# Altium integrated library Microchip PIC18.IntLib: 1897 symbols (part 49 of 110)
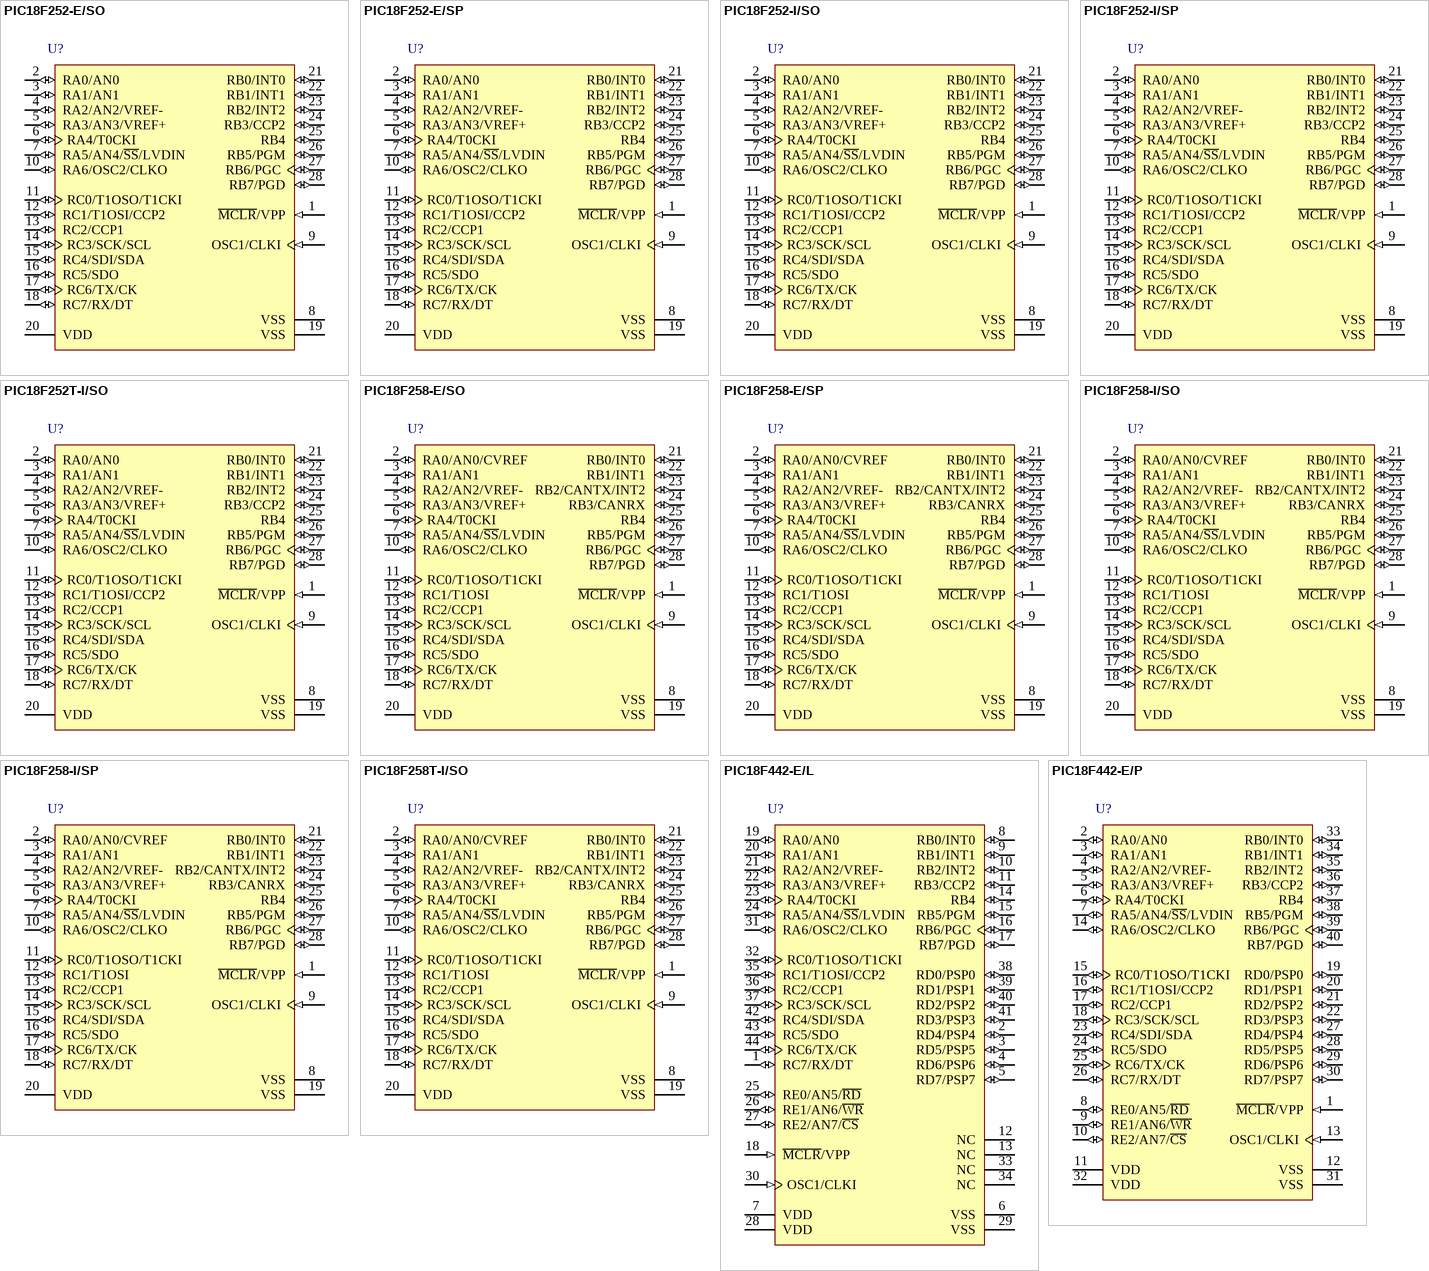
[diagram p247: symbols PIC18F252-E/SO to PIC18F442-E/P]

## PIC18F442-E/P
designator U?
High Performance, Enhanced Flash Microcontroller with 10-Bit A/D, 40 MHz, 34 I/O, -40 to 125 degC, 40-pin PDIP (P40), Tube; Manufacturer: Microchip; PartNumber: PIC18F442-E/P; # of A/D Channels: 8; Digital Communication: 0 -UART, 1 -A/E/USART, 0 -SPI, 0 -I2C, 1 -MSSP(SPI/I2C); EEPROM Data Memory (bytes): 256; I/O Pins: 34; Max. CPU Speed MHz: 40; Operation Voltage Range: 4.2V - 5.5V; Program Memory KBytes: 16; RAM: 768; Timers: 1 - 8-bit, 3 - 16-bit, 0 - 32-bit; DatasheetVersion: Rev. C; PackageVersion: C04-016B, 04/2013; PackageReference: PDIP-P40; PackageDescription: 40-Lead Plastic Dual In-Line Package, Body 51.75 x 13.53 mm, Pitch 2.54 mm; Supplier 1: Digi-Key; Supplier Part Number 1: PIC18F442-E/P-ND; Supplier 2: Mouser; Supplier Part Number 2: 579-PIC18F442-E/P; Memory Type: Flash; Packing: TUBE; Program Memory KWords: 8; RoHS: TRUE; Mounting Technology: Through Hole; ComponentLink1Description: Datasheet; ComponentLink1URL: http://ww1.microchip.com/downloads/en/DeviceDoc/39564c.pdf; ComponentLink2Description: Package Specification; ComponentLink2URL: http://www.microchip.com/stellent/groups/techpub_sg/documents/packagingspec/en012702.pdf; ComponentLink3Description: URL Link1; ComponentLink3URL: Product URL:http://www.microchip.com/datasheet/PIC18F442
footprint MCHP-PDIP-P40 (PDIP, 40-Leads, Body 51.75x13.53mm, Pitch 2.54mm)
pins: 1 ~{MCLR}/VPP (in), 2 RA0/AN0 (io), 3 RA1/AN1 (io), 4 RA2/AN2/VREF- (io), 5 RA3/AN3/VREF+ (io), 6 RA4/T0CKI (io), 7 RA5/AN4/~{SS}/LVDIN (io), 8 RE0/AN5/~{RD} (io), 9 RE1/AN6/~{WR} (io), 10 RE2/AN7/~{CS} (io), 11 VDD (power) "Positive supply for logic and I/O pins.", 12 VSS (power) "Ground reference for logic and I/O pins.", 13 OSC1/CLKI (in), 14 RA6/OSC2/CLKO (io), 15 RC0/T1OSO/T1CKI (io), 16 RC1/T1OSI/CCP2 (io), 17 RC2/CCP1 (io), 18 RC3/SCK/SCL (io), 19 RD0/PSP0 (io), 20 RD1/PSP1 (io), 21 RD2/PSP2 (io), 22 RD3/PSP3 (io), 23 RC4/SDI/SDA (io), 24 RC5/SDO (io), 25 RC6/TX/CK (io), 26 RC7/RX/DT (io), 27 RD4/PSP4 (io), 28 RD5/PSP5 (io), 29 RD6/PSP6 (io), 30 RD7/PSP7 (io), 31 VSS (power) "Ground reference for logic and I/O pins.", 32 VDD (power) "Positive supply for logic and I/O pins.", 33 RB0/INT0 (io), 34 RB1/INT1 (io), 35 RB2/INT2 (io), 36 RB3/CCP2 (io), 37 RB4 (io) "PORTB is a bi-directional I/O port. PORTB can be software programmed for internal weak pull-ups on all inputs. Digital I/O. Interrupt-on-change pin.", 38 RB5/PGM (io), 39 RB6/PGC (io), 40 RB7/PGD (io)

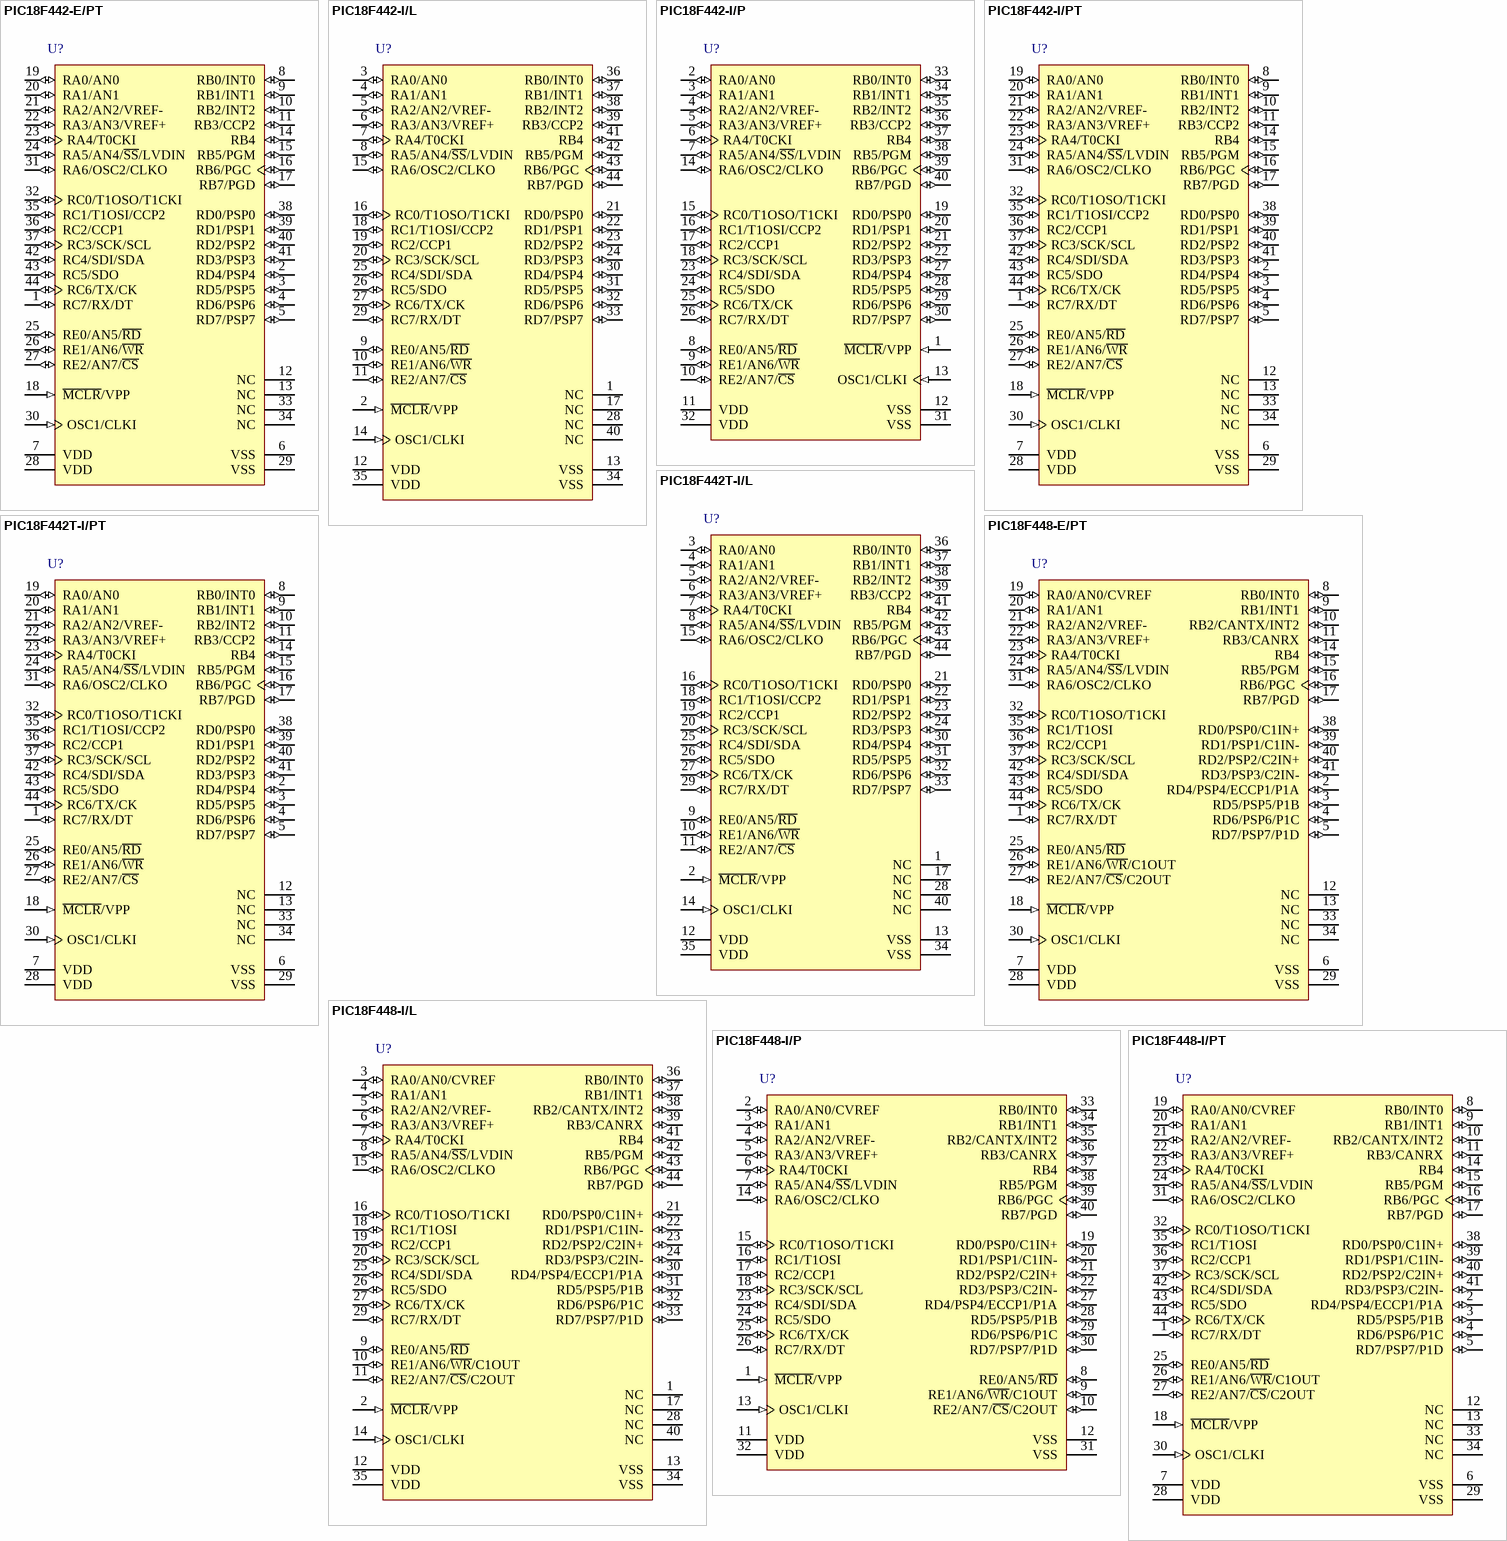
[diagram p89: symbols PIC18F442-E/PT to PIC18F448-I/PT]

## PIC18F442-E/PT
designator U?
High Performance, Enhanced Flash Microcontroller with 10-Bit A/D, 40 MHz, 34 I/O, -40 to 125 degC, 44-pin TQFP (PT44), Tray; Manufacturer: Microchip; PartNumber: PIC18F442-E/PT; # of A/D Channels: 8; Digital Communication: 0 -UART, 1 -A/E/USART, 0 -SPI, 0 -I2C, 1 -MSSP(SPI/I2C); EEPROM Data Memory (bytes): 256; I/O Pins: 34; Max. CPU Speed MHz: 40; Operation Voltage Range: 4.2V - 5.5V; Program Memory KBytes: 16; RAM: 768; Timers: 1 - 8-bit, 3 - 16-bit, 0 - 32-bit; DatasheetVersion: Rev. C; PackageVersion: C04-076B, 12/2012; PackageReference: TQFP-PT44; PackageDescription: 44-Lead Plastic Thin Quad Flatpack, 10 x 10 mm Body, 0.8 mm Pitch; Supplier 1: Digi-Key; Supplier Part Number 1: PIC18F442-E/PT-ND; Supplier 2: Mouser; Supplier Part Number 2: 579-PIC18F442-E/PT; Memory Type: Flash; Packing: TRAY; Program Memory KWords: 8; RoHS: TRUE; Mounting Technology: Surface Mount; ComponentLink1Description: Datasheet; ComponentLink1URL: http://ww1.microchip.com/downloads/en/DeviceDoc/39564c.pdf; ComponentLink2Description: Package Specification; ComponentLink2URL: http://www.microchip.com/stellent/groups/techpub_sg/documents/packagingspec/en012702.pdf; ComponentLink3Description: URL Link1; ComponentLink3URL: Product URL:http://www.microchip.com/datasheet/PIC18F442
footprint MCHP-TQFP-PT44_N (QFN, 44-Leads, Body 10x10mm, Pitch 0.8mm, IPC Medium Density)
footprint MCHP-TQFP-PT44_L (QFN, 44-Leads, Body 10x10mm, Pitch 0.8mm, IPC High Density)
footprint MCHP-TQFP-PT44_M (QFN, 44-Leads, Body 10x10mm, Pitch 0.8mm, IPC Low Density)
pins: 1 RC7/RX/DT (io), 2 RD4/PSP4 (io), 3 RD5/PSP5 (io), 4 RD6/PSP6 (io), 5 RD7/PSP7 (io), 6 VSS (power) "Ground reference for logic and I/O pins.", 7 VDD (power) "Positive supply for logic and I/O pins.", 8 RB0/INT0 (io), 9 RB1/INT1 (io), 10 RB2/INT2 (io), 11 RB3/CCP2 (io), 12 NC "These pins should be left unconnected.", 13 NC "These pins should be left unconnected.", 14 RB4 (io) "PORTB is a bi-directional I/O port. PORTB can be software programmed for internal weak pull-ups on all inputs. Digital I/O. Interrupt-on-change pin.", 15 RB5/PGM (io), 16 RB6/PGC (io), 17 RB7/PGD (io), 18 ~{MCLR}/VPP (in), 19 RA0/AN0 (io), 20 RA1/AN1 (io), 21 RA2/AN2/VREF- (io), 22 RA3/AN3/VREF+ (io), 23 RA4/T0CKI (io), 24 RA5/AN4/~{SS}/LVDIN (io), 25 RE0/AN5/~{RD} (io), 26 RE1/AN6/~{WR} (io), 27 RE2/AN7/~{CS} (io), 28 VDD (power) "Positive supply for logic and I/O pins.", 29 VSS (power) "Ground reference for logic and I/O pins.", 30 OSC1/CLKI (in), 31 RA6/OSC2/CLKO (io), 32 RC0/T1OSO/T1CKI (io), 33 NC "These pins should be left unconnected.", 34 NC "These pins should be left unconnected.", 35 RC1/T1OSI/CCP2 (io), 36 RC2/CCP1 (io), 37 RC3/SCK/SCL (io), 38 RD0/PSP0 (io), 39 RD1/PSP1 (io), 40 RD2/PSP2 (io), 41 RD3/PSP3 (io), 42 RC4/SDI/SDA (io), 43 RC5/SDO (io), 44 RC6/TX/CK (io)

## PIC18F442-I/L
designator U?
High Performance, Enhanced Flash Microcontroller with 10-Bit A/D, 40 MHz, 34 I/O, -40 to 85 degC, 44-pin PLCC (L44), Tube; Manufacturer: Microchip; PartNumber: PIC18F442-I/L; # of A/D Channels: 8; Digital Communication: 0 -UART, 1 -A/E/USART, 0 -SPI, 0 -I2C, 1 -MSSP(SPI/I2C); EEPROM Data Memory (bytes): 256; I/O Pins: 34; Max. CPU Speed MHz: 40; Operation Voltage Range: 4.2V - 5.5V; Program Memory KBytes: 16; RAM: 768; Timers: 1 - 8-bit, 3 - 16-bit, 0 - 32-bit; DatasheetVersion: Rev. C; PackageVersion: C04-048B, 04/2013; PackageReference: PLCC-L44; PackageDescription: 44-Lead Plastic Leaded Chip Carrier, Body 16.5862 x 16.5862 mm, Pitch 1.27 mm; Supplier 1: Digi-Key; Supplier Part Number 1: PIC18F442-I/L-ND; Supplier 2: Farnell; Supplier Part Number 2: 9762175; Supplier 3: Newark; Supplier Part Number 3: 89C2888; Supplier 4: Mouser; Supplier Part Number 4: 579-PIC18F442-I/L; Memory Type: Flash; Packing: TUBE; Program Memory KWords: 8; RoHS: TRUE; Mounting Technology: Surface Mount; ComponentLink1Description: Datasheet; ComponentLink1URL: http://ww1.microchip.com/downloads/en/DeviceDoc/39564c.pdf; ComponentLink2Description: Package Specification; ComponentLink2URL: http://www.microchip.com/stellent/groups/techpub_sg/documents/packagingspec/en012702.pdf; ComponentLink3Description: URL Link1; ComponentLink3URL: Product URL:http://www.microchip.com/datasheet/PIC18F442
footprint MCHP-PLCC-L44_N (PLCC, 44-Leads, Body 16.586x16.586mm, Pitch 1.27mm, IPC Medium Density)
footprint MCHP-PLCC-L44_L (PLCC, 44-Leads, Body 16.586x16.586mm, Pitch 1.27mm, IPC High Density)
footprint MCHP-PLCC-L44_M (PLCC, 44-Leads, Body 16.586x16.586mm, Pitch 1.27mm, IPC Low Density)
pins: 1 NC "These pins should be left unconnected.", 2 ~{MCLR}/VPP (in), 3 RA0/AN0 (io), 4 RA1/AN1 (io), 5 RA2/AN2/VREF- (io), 6 RA3/AN3/VREF+ (io), 7 RA4/T0CKI (io), 8 RA5/AN4/~{SS}/LVDIN (io), 9 RE0/AN5/~{RD} (io), 10 RE1/AN6/~{WR} (io), 11 RE2/AN7/~{CS} (io), 12 VDD (power) "Positive supply for logic and I/O pins.", 13 VSS (power) "Ground reference for logic and I/O pins.", 14 OSC1/CLKI (in), 15 RA6/OSC2/CLKO (io), 16 RC0/T1OSO/T1CKI (io), 17 NC "These pins should be left unconnected.", 18 RC1/T1OSI/CCP2 (io), 19 RC2/CCP1 (io), 20 RC3/SCK/SCL (io), 21 RD0/PSP0 (io), 22 RD1/PSP1 (io), 23 RD2/PSP2 (io), 24 RD3/PSP3 (io), 25 RC4/SDI/SDA (io), 26 RC5/SDO (io), 27 RC6/TX/CK (io), 28 NC "These pins should be left unconnected.", 29 RC7/RX/DT (io), 30 RD4/PSP4 (io), 31 RD5/PSP5 (io), 32 RD6/PSP6 (io), 33 RD7/PSP7 (io), 34 VSS (power) "Ground reference for logic and I/O pins.", 35 VDD (power) "Positive supply for logic and I/O pins.", 36 RB0/INT0 (io), 37 RB1/INT1 (io), 38 RB2/INT2 (io), 39 RB3/CCP2 (io), 40 NC "These pins should be left unconnected.", 41 RB4 (io) "PORTB is a bi-directional I/O port. PORTB can be software programmed for internal weak pull-ups on all inputs. Digital I/O. Interrupt-on-change pin.", 42 RB5/PGM (io), 43 RB6/PGC (io), 44 RB7/PGD (io)

## PIC18F442-I/P
designator U?
High Performance, Enhanced Flash Microcontroller with 10-Bit A/D, 40 MHz, 34 I/O, -40 to 85 degC, 40-pin PDIP (P40), Tube; Manufacturer: Microchip; PartNumber: PIC18F442-I/P; # of A/D Channels: 8; Digital Communication: 0 -UART, 1 -A/E/USART, 0 -SPI, 0 -I2C, 1 -MSSP(SPI/I2C); EEPROM Data Memory (bytes): 256; I/O Pins: 34; Max. CPU Speed MHz: 40; Operation Voltage Range: 4.2V - 5.5V; Program Memory KBytes: 16; RAM: 768; Timers: 1 - 8-bit, 3 - 16-bit, 0 - 32-bit; DatasheetVersion: Rev. C; PackageVersion: C04-016B, 04/2013; PackageReference: PDIP-P40; PackageDescription: 40-Lead Plastic Dual In-Line Package, Body 51.75 x 13.53 mm, Pitch 2.54 mm; Supplier 1: Digi-Key; Supplier Part Number 1: PIC18F442-I/P-ND; Supplier 2: Farnell; Supplier Part Number 2: 9762183; Supplier 3: Newark; Supplier Part Number 3: 69K7644; Supplier 4: Mouser; Supplier Part Number 4: 579-PIC18F442-I/P; Memory Type: Flash; Packing: TUBE; Program Memory KWords: 8; RoHS: TRUE; Mounting Technology: Through Hole; ComponentLink1Description: Datasheet; ComponentLink1URL: http://ww1.microchip.com/downloads/en/DeviceDoc/39564c.pdf; ComponentLink2Description: Package Specification; ComponentLink2URL: http://www.microchip.com/stellent/groups/techpub_sg/documents/packagingspec/en012702.pdf; ComponentLink3Description: URL Link1; ComponentLink3URL: Product URL:http://www.microchip.com/datasheet/PIC18F442
footprint MCHP-PDIP-P40 (PDIP, 40-Leads, Body 51.75x13.53mm, Pitch 2.54mm)
pins: 1 ~{MCLR}/VPP (in), 2 RA0/AN0 (io), 3 RA1/AN1 (io), 4 RA2/AN2/VREF- (io), 5 RA3/AN3/VREF+ (io), 6 RA4/T0CKI (io), 7 RA5/AN4/~{SS}/LVDIN (io), 8 RE0/AN5/~{RD} (io), 9 RE1/AN6/~{WR} (io), 10 RE2/AN7/~{CS} (io), 11 VDD (power) "Positive supply for logic and I/O pins.", 12 VSS (power) "Ground reference for logic and I/O pins.", 13 OSC1/CLKI (in), 14 RA6/OSC2/CLKO (io), 15 RC0/T1OSO/T1CKI (io), 16 RC1/T1OSI/CCP2 (io), 17 RC2/CCP1 (io), 18 RC3/SCK/SCL (io), 19 RD0/PSP0 (io), 20 RD1/PSP1 (io), 21 RD2/PSP2 (io), 22 RD3/PSP3 (io), 23 RC4/SDI/SDA (io), 24 RC5/SDO (io), 25 RC6/TX/CK (io), 26 RC7/RX/DT (io), 27 RD4/PSP4 (io), 28 RD5/PSP5 (io), 29 RD6/PSP6 (io), 30 RD7/PSP7 (io), 31 VSS (power) "Ground reference for logic and I/O pins.", 32 VDD (power) "Positive supply for logic and I/O pins.", 33 RB0/INT0 (io), 34 RB1/INT1 (io), 35 RB2/INT2 (io), 36 RB3/CCP2 (io), 37 RB4 (io) "PORTB is a bi-directional I/O port. PORTB can be software programmed for internal weak pull-ups on all inputs. Digital I/O. Interrupt-on-change pin.", 38 RB5/PGM (io), 39 RB6/PGC (io), 40 RB7/PGD (io)

## PIC18F442-I/PT
designator U?
High Performance, Enhanced Flash Microcontroller with 10-Bit A/D, 40 MHz, 34 I/O, -40 to 85 degC, 44-pin TQFP (PT44), Tray; Manufacturer: Microchip; PartNumber: PIC18F442-I/PT; # of A/D Channels: 8; Digital Communication: 0 -UART, 1 -A/E/USART, 0 -SPI, 0 -I2C, 1 -MSSP(SPI/I2C); EEPROM Data Memory (bytes): 256; I/O Pins: 34; Max. CPU Speed MHz: 40; Operation Voltage Range: 4.2V - 5.5V; Program Memory KBytes: 16; RAM: 768; Timers: 1 - 8-bit, 3 - 16-bit, 0 - 32-bit; DatasheetVersion: Rev. C; PackageVersion: C04-076B, 12/2012; PackageReference: TQFP-PT44; PackageDescription: 44-Lead Plastic Thin Quad Flatpack, 10 x 10 mm Body, 0.8 mm Pitch; Supplier 1: Digi-Key; Supplier Part Number 1: PIC18F442-I/PT-ND; Supplier 2: Farnell; Supplier Part Number 2: 1084324MPKG; Supplier 3: Farnell; Supplier Part Number 3: 1084324; Supplier 4: Newark; Supplier Part Number 4: 61K3472; Supplier 5: Mouser; Supplier Part Number 5: 579-PIC18F442-I/PT; Memory Type: Flash; Packing: TRAY; Program Memory KWords: 8; RoHS: TRUE; Mounting Technology: Surface Mount; ComponentLink1Description: Datasheet; ComponentLink1URL: http://ww1.microchip.com/downloads/en/DeviceDoc/39564c.pdf; ComponentLink2Description: Package Specification; ComponentLink2URL: http://www.microchip.com/stellent/groups/techpub_sg/documents/packagingspec/en012702.pdf; ComponentLink3Description: URL Link1; ComponentLink3URL: Product URL:http://www.microchip.com/datasheet/PIC18F442
footprint MCHP-TQFP-PT44_N (QFN, 44-Leads, Body 10x10mm, Pitch 0.8mm, IPC Medium Density)
footprint MCHP-TQFP-PT44_L (QFN, 44-Leads, Body 10x10mm, Pitch 0.8mm, IPC High Density)
footprint MCHP-TQFP-PT44_M (QFN, 44-Leads, Body 10x10mm, Pitch 0.8mm, IPC Low Density)
pins: 1 RC7/RX/DT (io), 2 RD4/PSP4 (io), 3 RD5/PSP5 (io), 4 RD6/PSP6 (io), 5 RD7/PSP7 (io), 6 VSS (power) "Ground reference for logic and I/O pins.", 7 VDD (power) "Positive supply for logic and I/O pins.", 8 RB0/INT0 (io), 9 RB1/INT1 (io), 10 RB2/INT2 (io), 11 RB3/CCP2 (io), 12 NC "These pins should be left unconnected.", 13 NC "These pins should be left unconnected.", 14 RB4 (io) "PORTB is a bi-directional I/O port. PORTB can be software programmed for internal weak pull-ups on all inputs. Digital I/O. Interrupt-on-change pin.", 15 RB5/PGM (io), 16 RB6/PGC (io), 17 RB7/PGD (io), 18 ~{MCLR}/VPP (in), 19 RA0/AN0 (io), 20 RA1/AN1 (io), 21 RA2/AN2/VREF- (io), 22 RA3/AN3/VREF+ (io), 23 RA4/T0CKI (io), 24 RA5/AN4/~{SS}/LVDIN (io), 25 RE0/AN5/~{RD} (io), 26 RE1/AN6/~{WR} (io), 27 RE2/AN7/~{CS} (io), 28 VDD (power) "Positive supply for logic and I/O pins.", 29 VSS (power) "Ground reference for logic and I/O pins.", 30 OSC1/CLKI (in), 31 RA6/OSC2/CLKO (io), 32 RC0/T1OSO/T1CKI (io), 33 NC "These pins should be left unconnected.", 34 NC "These pins should be left unconnected.", 35 RC1/T1OSI/CCP2 (io), 36 RC2/CCP1 (io), 37 RC3/SCK/SCL (io), 38 RD0/PSP0 (io), 39 RD1/PSP1 (io), 40 RD2/PSP2 (io), 41 RD3/PSP3 (io), 42 RC4/SDI/SDA (io), 43 RC5/SDO (io), 44 RC6/TX/CK (io)

## PIC18F442T-I/L
designator U?
High Performance, Enhanced Flash Microcontroller with 10-Bit A/D, 40 MHz, 34 I/O, -40 to 85 degC, 44-pin PLCC (L44), Tape and Reel; Manufacturer: Microchip; PartNumber: PIC18F442T-I/L; # of A/D Channels: 8; Digital Communication: 0 -UART, 1 -A/E/USART, 0 -SPI, 0 -I2C, 1 -MSSP(SPI/I2C); EEPROM Data Memory (bytes): 256; I/O Pins: 34; Max. CPU Speed MHz: 40; Operation Voltage Range: 4.2V - 5.5V; Packing: T/R; Program Memory KBytes: 16; RAM: 768; Timers: 1 - 8-bit, 3 - 16-bit, 0 - 32-bit; DatasheetVersion: Rev. C; PackageVersion: C04-048B, 04/2013; PackageReference: PLCC-L44; PackageDescription: 44-Lead Plastic Leaded Chip Carrier, Body 16.5862 x 16.5862 mm, Pitch 1.27 mm; Supplier 1: Digi-Key; Supplier Part Number 1: PIC18F442T-I/L-ND; Supplier 2: Mouser; Supplier Part Number 2: 579-PIC18F442T-I/L; Memory Type: Flash; Program Memory KWords: 8; RoHS: TRUE; Mounting Technology: Surface Mount; ComponentLink1Description: Datasheet; ComponentLink1URL: http://ww1.microchip.com/downloads/en/DeviceDoc/39564c.pdf; ComponentLink2Description: Package Specification; ComponentLink2URL: http://www.microchip.com/stellent/groups/techpub_sg/documents/packagingspec/en012702.pdf; ComponentLink3Description: URL Link1; ComponentLink3URL: Product URL:http://www.microchip.com/datasheet/PIC18F442
footprint MCHP-PLCC-L44_N (PLCC, 44-Leads, Body 16.586x16.586mm, Pitch 1.27mm, IPC Medium Density)
footprint MCHP-PLCC-L44_L (PLCC, 44-Leads, Body 16.586x16.586mm, Pitch 1.27mm, IPC High Density)
footprint MCHP-PLCC-L44_M (PLCC, 44-Leads, Body 16.586x16.586mm, Pitch 1.27mm, IPC Low Density)
pins: 1 NC "These pins should be left unconnected.", 2 ~{MCLR}/VPP (in), 3 RA0/AN0 (io), 4 RA1/AN1 (io), 5 RA2/AN2/VREF- (io), 6 RA3/AN3/VREF+ (io), 7 RA4/T0CKI (io), 8 RA5/AN4/~{SS}/LVDIN (io), 9 RE0/AN5/~{RD} (io), 10 RE1/AN6/~{WR} (io), 11 RE2/AN7/~{CS} (io), 12 VDD (power) "Positive supply for logic and I/O pins.", 13 VSS (power) "Ground reference for logic and I/O pins.", 14 OSC1/CLKI (in), 15 RA6/OSC2/CLKO (io), 16 RC0/T1OSO/T1CKI (io), 17 NC "These pins should be left unconnected.", 18 RC1/T1OSI/CCP2 (io), 19 RC2/CCP1 (io), 20 RC3/SCK/SCL (io), 21 RD0/PSP0 (io), 22 RD1/PSP1 (io), 23 RD2/PSP2 (io), 24 RD3/PSP3 (io), 25 RC4/SDI/SDA (io), 26 RC5/SDO (io), 27 RC6/TX/CK (io), 28 NC "These pins should be left unconnected.", 29 RC7/RX/DT (io), 30 RD4/PSP4 (io), 31 RD5/PSP5 (io), 32 RD6/PSP6 (io), 33 RD7/PSP7 (io), 34 VSS (power) "Ground reference for logic and I/O pins.", 35 VDD (power) "Positive supply for logic and I/O pins.", 36 RB0/INT0 (io), 37 RB1/INT1 (io), 38 RB2/INT2 (io), 39 RB3/CCP2 (io), 40 NC "These pins should be left unconnected.", 41 RB4 (io) "PORTB is a bi-directional I/O port. PORTB can be software programmed for internal weak pull-ups on all inputs. Digital I/O. Interrupt-on-change pin.", 42 RB5/PGM (io), 43 RB6/PGC (io), 44 RB7/PGD (io)

## PIC18F442T-I/PT
designator U?
High Performance, Enhanced Flash Microcontroller with 10-Bit A/D, 40 MHz, 34 I/O, -40 to 85 degC, 44-pin TQFP (PT44), Tape and Reel; Manufacturer: Microchip; PartNumber: PIC18F442T-I/PT; # of A/D Channels: 8; Digital Communication: 0 -UART, 1 -A/E/USART, 0 -SPI, 0 -I2C, 1 -MSSP(SPI/I2C); EEPROM Data Memory (bytes): 256; I/O Pins: 34; Max. CPU Speed MHz: 40; Operation Voltage Range: 4.2V - 5.5V; Packing: T/R; Program Memory KBytes: 16; RAM: 768; Timers: 1 - 8-bit, 3 - 16-bit, 0 - 32-bit; DatasheetVersion: Rev. C; PackageVersion: C04-076B, 12/2012; PackageReference: TQFP-PT44; PackageDescription: 44-Lead Plastic Thin Quad Flatpack, 10 x 10 mm Body, 0.8 mm Pitch; Supplier 1: Digi-Key; Supplier Part Number 1: PIC18F442T-I/PT-ND; Supplier 2: Mouser; Supplier Part Number 2: 579-PIC18F442T-I/PT; Memory Type: Flash; Program Memory KWords: 8; RoHS: TRUE; Mounting Technology: Surface Mount; ComponentLink1Description: Datasheet; ComponentLink1URL: http://ww1.microchip.com/downloads/en/DeviceDoc/39564c.pdf; ComponentLink2Description: Package Specification; ComponentLink2URL: http://www.microchip.com/stellent/groups/techpub_sg/documents/packagingspec/en012702.pdf; ComponentLink3Description: URL Link1; ComponentLink3URL: Product URL:http://www.microchip.com/datasheet/PIC18F442
footprint MCHP-TQFP-PT44_N (QFN, 44-Leads, Body 10x10mm, Pitch 0.8mm, IPC Medium Density)
footprint MCHP-TQFP-PT44_L (QFN, 44-Leads, Body 10x10mm, Pitch 0.8mm, IPC High Density)
footprint MCHP-TQFP-PT44_M (QFN, 44-Leads, Body 10x10mm, Pitch 0.8mm, IPC Low Density)
pins: 1 RC7/RX/DT (io), 2 RD4/PSP4 (io), 3 RD5/PSP5 (io), 4 RD6/PSP6 (io), 5 RD7/PSP7 (io), 6 VSS (power) "Ground reference for logic and I/O pins.", 7 VDD (power) "Positive supply for logic and I/O pins.", 8 RB0/INT0 (io), 9 RB1/INT1 (io), 10 RB2/INT2 (io), 11 RB3/CCP2 (io), 12 NC "These pins should be left unconnected.", 13 NC "These pins should be left unconnected.", 14 RB4 (io) "PORTB is a bi-directional I/O port. PORTB can be software programmed for internal weak pull-ups on all inputs. Digital I/O. Interrupt-on-change pin.", 15 RB5/PGM (io), 16 RB6/PGC (io), 17 RB7/PGD (io), 18 ~{MCLR}/VPP (in), 19 RA0/AN0 (io), 20 RA1/AN1 (io), 21 RA2/AN2/VREF- (io), 22 RA3/AN3/VREF+ (io), 23 RA4/T0CKI (io), 24 RA5/AN4/~{SS}/LVDIN (io), 25 RE0/AN5/~{RD} (io), 26 RE1/AN6/~{WR} (io), 27 RE2/AN7/~{CS} (io), 28 VDD (power) "Positive supply for logic and I/O pins.", 29 VSS (power) "Ground reference for logic and I/O pins.", 30 OSC1/CLKI (in), 31 RA6/OSC2/CLKO (io), 32 RC0/T1OSO/T1CKI (io), 33 NC "These pins should be left unconnected.", 34 NC "These pins should be left unconnected.", 35 RC1/T1OSI/CCP2 (io), 36 RC2/CCP1 (io), 37 RC3/SCK/SCL (io), 38 RD0/PSP0 (io), 39 RD1/PSP1 (io), 40 RD2/PSP2 (io), 41 RD3/PSP3 (io), 42 RC4/SDI/SDA (io), 43 RC5/SDO (io), 44 RC6/TX/CK (io)

## PIC18F448-E/PT
designator U?
High-Performance, Enhanced Flash Microcontroller with CAN Module, 40 MHz, 33 I/O, -40 to 125 degC, 44-pin TQFP (PT44), Tray; Manufacturer: Microchip; PartNumber: PIC18F448-E/PT; # of A/D Channels: 8; Digital Communication: 0 -UART, 1 -A/E/USART, 0 -SPI, 0 -I2C, 1 -MSSP(SPI/I2C); EEPROM Data Memory (bytes): 256; I/O Pins: 33; Max. CPU Speed MHz: 40; Operation Voltage Range: 4.2V - 5.5V; Program Memory KBytes: 16; RAM: 768; Timers: 1 - 8-bit, 3 - 16-bit; DatasheetVersion: Rev. E; PackageVersion: C04-076B, 12/2012; PackageReference: TQFP-PT44; PackageDescription: 44-Lead Plastic Thin Quad Flatpack, 10 x 10 mm Body, 0.8 mm Pitch; Supplier 1: Digi-Key; Supplier Part Number 1: PIC18F448-E/PT-ND; Supplier 2: Mouser; Supplier Part Number 2: 579-PIC18F448-E/PT; Memory Type: Flash; Packing: TRAY; Program Memory KWords: 8; RoHS: TRUE; Mounting Technology: Surface Mount; ComponentLink1Description: Datasheet; ComponentLink1URL: http://ww1.microchip.com/downloads/en/DeviceDoc/41159e.pdf; ComponentLink2Description: Package Specification; ComponentLink2URL: http://www.microchip.com/stellent/groups/techpub_sg/documents/packagingspec/en012702.pdf; ComponentLink3Description: URL Link1; ComponentLink3URL: Product URL:http://www.microchip.com/datasheet/PIC18F448
footprint MCHP-TQFP-PT44_N (QFN, 44-Leads, Body 10x10mm, Pitch 0.8mm, IPC Medium Density)
footprint MCHP-TQFP-PT44_L (QFN, 44-Leads, Body 10x10mm, Pitch 0.8mm, IPC High Density)
footprint MCHP-TQFP-PT44_M (QFN, 44-Leads, Body 10x10mm, Pitch 0.8mm, IPC Low Density)
pins: 1 RC7/RX/DT (io), 2 RD4/PSP4/ECCP1/P1A (io), 3 RD5/PSP5/P1B (io), 4 RD6/PSP6/P1C (io), 5 RD7/PSP7/P1D (io), 6 VSS (power) "Ground reference for logic and I/O pins.", 7 VDD (power) "Positive supply for logic and I/O pins.", 8 RB0/INT0 (io), 9 RB1/INT1 (io), 10 RB2/CANTX/INT2 (io), 11 RB3/CANRX (io), 12 NC, 13 NC, 14 RB4 (io) "Digital I/O. Interrupt-on-change pin.", 15 RB5/PGM (io), 16 RB6/PGC (io), 17 RB7/PGD (io), 18 ~{MCLR}/VPP (in), 19 RA0/AN0/CVREF (io), 20 RA1/AN1 (io), 21 RA2/AN2/VREF- (io), 22 RA3/AN3/VREF+ (io), 23 RA4/T0CKI (io), 24 RA5/AN4/~{SS}/LVDIN (io), 25 RE0/AN5/~{RD} (io), 26 RE1/AN6/~{WR}/C1OUT (io), 27 RE2/AN7/~{CS}/C2OUT (io), 28 VDD (power) "Positive supply for logic and I/O pins.", 29 VSS (power) "Ground reference for logic and I/O pins.", 30 OSC1/CLKI (in), 31 RA6/OSC2/CLKO (io), 32 RC0/T1OSO/T1CKI (io), 33 NC, 34 NC, 35 RC1/T1OSI (io), 36 RC2/CCP1 (io), 37 RC3/SCK/SCL (io), 38 RD0/PSP0/C1IN+ (io), 39 RD1/PSP1/C1IN- (io), 40 RD2/PSP2/C2IN+ (io), 41 RD3/PSP3/C2IN- (io), 42 RC4/SDI/SDA (io), 43 RC5/SDO (io), 44 RC6/TX/CK (io)

## PIC18F448-I/L
designator U?
High-Performance, Enhanced Flash Microcontroller with CAN Module, 40 MHz, 33 I/O, -40 to 85 degC, 44-pin PLCC (L44), Tube; Manufacturer: Microchip; PartNumber: PIC18F448-I/L; # of A/D Channels: 8; Digital Communication: 0 -UART, 1 -A/E/USART, 0 -SPI, 0 -I2C, 1 -MSSP(SPI/I2C); EEPROM Data Memory (bytes): 256; I/O Pins: 33; Max. CPU Speed MHz: 40; Operation Voltage Range: 4.2V - 5.5V; Program Memory KBytes: 16; RAM: 768; Timers: 1 - 8-bit, 3 - 16-bit; DatasheetVersion: Rev. E; PackageVersion: C04-048B, 04/2013; PackageReference: PLCC-L44; PackageDescription: 44-Lead Plastic Leaded Chip Carrier, Body 16.5862 x 16.5862 mm, Pitch 1.27 mm; Supplier 1: Digi-Key; Supplier Part Number 1: PIC18F448-I/L-ND; Supplier 2: Farnell; Supplier Part Number 2: 1212924; Supplier 3: Mouser; Supplier Part Number 3: 579-PIC18F448-I/L; Memory Type: Flash; Packing: TUBE; Program Memory KWords: 8; RoHS: TRUE; Mounting Technology: Surface Mount; ComponentLink1Description: Datasheet; ComponentLink1URL: http://ww1.microchip.com/downloads/en/DeviceDoc/41159e.pdf; ComponentLink2Description: Package Specification; ComponentLink2URL: http://www.microchip.com/stellent/groups/techpub_sg/documents/packagingspec/en012702.pdf; ComponentLink3Description: URL Link1; ComponentLink3URL: Product URL:http://www.microchip.com/datasheet/PIC18F448
footprint MCHP-PLCC-L44_N (PLCC, 44-Leads, Body 16.586x16.586mm, Pitch 1.27mm, IPC Medium Density)
footprint MCHP-PLCC-L44_L (PLCC, 44-Leads, Body 16.586x16.586mm, Pitch 1.27mm, IPC High Density)
footprint MCHP-PLCC-L44_M (PLCC, 44-Leads, Body 16.586x16.586mm, Pitch 1.27mm, IPC Low Density)
pins: 1 NC, 2 ~{MCLR}/VPP (in), 3 RA0/AN0/CVREF (io), 4 RA1/AN1 (io), 5 RA2/AN2/VREF- (io), 6 RA3/AN3/VREF+ (io), 7 RA4/T0CKI (io), 8 RA5/AN4/~{SS}/LVDIN (io), 9 RE0/AN5/~{RD} (io), 10 RE1/AN6/~{WR}/C1OUT (io), 11 RE2/AN7/~{CS}/C2OUT (io), 12 VDD (power) "Positive supply for logic and I/O pins.", 13 VSS (power) "Ground reference for logic and I/O pins.", 14 OSC1/CLKI (in), 15 RA6/OSC2/CLKO (io), 16 RC0/T1OSO/T1CKI (io), 17 NC, 18 RC1/T1OSI (io), 19 RC2/CCP1 (io), 20 RC3/SCK/SCL (io), 21 RD0/PSP0/C1IN+ (io), 22 RD1/PSP1/C1IN- (io), 23 RD2/PSP2/C2IN+ (io), 24 RD3/PSP3/C2IN- (io), 25 RC4/SDI/SDA (io), 26 RC5/SDO (io), 27 RC6/TX/CK (io), 28 NC, 29 RC7/RX/DT (io), 30 RD4/PSP4/ECCP1/P1A (io), 31 RD5/PSP5/P1B (io), 32 RD6/PSP6/P1C (io), 33 RD7/PSP7/P1D (io), 34 VSS (power) "Ground reference for logic and I/O pins.", 35 VDD (power) "Positive supply for logic and I/O pins.", 36 RB0/INT0 (io), 37 RB1/INT1 (io), 38 RB2/CANTX/INT2 (io), 39 RB3/CANRX (io), 40 NC, 41 RB4 (io) "PORTB is a bi-directional I/O port. PORTB can be software programmed for internal weak pull-up on all inputs. Interrupt on change pin.", 42 RB5/PGM (io), 43 RB6/PGC (io), 44 RB7/PGD (io)

## PIC18F448-I/P
designator U?
High-Performance, Enhanced Flash Microcontroller with CAN Module, 40 MHz, 33 I/O, -40 to 85 degC, 40-pin PDIP (P40), Tube; Manufacturer: Microchip; PartNumber: PIC18F448-I/P; # of A/D Channels: 8; Digital Communication: 0 -UART, 1 -A/E/USART, 0 -SPI, 0 -I2C, 1 -MSSP(SPI/I2C); EEPROM Data Memory (bytes): 256; I/O Pins: 33; Max. CPU Speed MHz: 40; Operation Voltage Range: 4.2V - 5.5V; Program Memory KBytes: 16; RAM: 768; Timers: 1 - 8-bit, 3 - 16-bit; DatasheetVersion: Rev. E; PackageVersion: C04-016B, 04/2013; PackageReference: PDIP-P40; PackageDescription: 40-Lead Plastic Dual In-Line Package, Body 51.75 x 13.53 mm, Pitch 2.54 mm; Supplier 1: Digi-Key; Supplier Part Number 1: PIC18F448-I/P-ND; Supplier 2: Farnell; Supplier Part Number 2: 9762205; Supplier 3: Newark; Supplier Part Number 3: 92C5059; Supplier 4: Mouser; Supplier Part Number 4: 579-PIC18F448-I/P; Memory Type: Flash; Packing: TUBE; Program Memory KWords: 8; RoHS: TRUE; Mounting Technology: Through Hole; ComponentLink1Description: Datasheet; ComponentLink1URL: http://ww1.microchip.com/downloads/en/DeviceDoc/41159e.pdf; ComponentLink2Description: Package Specification; ComponentLink2URL: http://www.microchip.com/stellent/groups/techpub_sg/documents/packagingspec/en012702.pdf; ComponentLink3Description: URL Link1; ComponentLink3URL: Product URL:http://www.microchip.com/datasheet/PIC18F448
footprint MCHP-PDIP-P40 (PDIP, 40-Leads, Body 51.75x13.53mm, Pitch 2.54mm)
pins: 1 ~{MCLR}/VPP (in), 2 RA0/AN0/CVREF (io), 3 RA1/AN1 (io), 4 RA2/AN2/VREF- (io), 5 RA3/AN3/VREF+ (io), 6 RA4/T0CKI (io), 7 RA5/AN4/~{SS}/LVDIN (io), 8 RE0/AN5/~{RD} (io), 9 RE1/AN6/~{WR}/C1OUT (io), 10 RE2/AN7/~{CS}/C2OUT (io), 11 VDD (power) "Positive supply for logic and I/O pins.", 12 VSS (power) "Ground reference for logic and I/O pins.", 13 OSC1/CLKI (in), 14 RA6/OSC2/CLKO (io), 15 RC0/T1OSO/T1CKI (io), 16 RC1/T1OSI (io), 17 RC2/CCP1 (io), 18 RC3/SCK/SCL (io), 19 RD0/PSP0/C1IN+ (io), 20 RD1/PSP1/C1IN- (io), 21 RD2/PSP2/C2IN+ (io), 22 RD3/PSP3/C2IN- (io), 23 RC4/SDI/SDA (io), 24 RC5/SDO (io), 25 RC6/TX/CK (io), 26 RC7/RX/DT (io), 27 RD4/PSP4/ECCP1/P1A (io), 28 RD5/PSP5/P1B (io), 29 RD6/PSP6/P1C (io), 30 RD7/PSP7/P1D (io), 31 VSS (power) "Ground reference for logic and I/O pins.", 32 VDD (power) "Positive supply for logic and I/O pins.", 33 RB0/INT0 (io), 34 RB1/INT1 (io), 35 RB2/CANTX/INT2 (io), 36 RB3/CANRX (io), 37 RB4 (io) "Digital I/O. Interrupt-on-change pin.", 38 RB5/PGM (io), 39 RB6/PGC (io), 40 RB7/PGD (io)

## PIC18F448-I/PT
designator U?
High-Performance, Enhanced Flash Microcontroller with CAN Module, 40 MHz, 33 I/O, -40 to 85 degC, 44-pin TQFP (PT44), Tray; Manufacturer: Microchip; PartNumber: PIC18F448-I/PT; # of A/D Channels: 8; Digital Communication: 0 -UART, 1 -A/E/USART, 0 -SPI, 0 -I2C, 1 -MSSP(SPI/I2C); EEPROM Data Memory (bytes): 256; I/O Pins: 33; Max. CPU Speed MHz: 40; Operation Voltage Range: 4.2V - 5.5V; Program Memory KBytes: 16; RAM: 768; Timers: 1 - 8-bit, 3 - 16-bit; DatasheetVersion: Rev. E; PackageVersion: C04-076B, 12/2012; PackageReference: TQFP-PT44; PackageDescription: 44-Lead Plastic Thin Quad Flatpack, 10 x 10 mm Body, 0.8 mm Pitch; Supplier 1: Digi-Key; Supplier Part Number 1: PIC18F448-I/PT-ND; Supplier 2: Farnell; Supplier Part Number 2: 1528483; Supplier 3: Farnell; Supplier Part Number 3: 9762213MPKG; Supplier 4: Farnell; Supplier Part Number 4: 9762213; Supplier 5: Newark; Supplier Part Number 5: 92C5060; Supplier 6: Mouser; Supplier Part Number 6: 579-PIC18F448-I/PT; Memory Type: Flash; Packing: TRAY; Program Memory KWords: 8; RoHS: TRUE; Mounting Technology: Surface Mount; ComponentLink1Description: Datasheet; ComponentLink1URL: http://ww1.microchip.com/downloads/en/DeviceDoc/41159e.pdf; ComponentLink2Description: Package Specification; ComponentLink2URL: http://www.microchip.com/stellent/groups/techpub_sg/documents/packagingspec/en012702.pdf; ComponentLink3Description: URL Link1; ComponentLink3URL: Product URL:http://www.microchip.com/datasheet/PIC18F448
footprint MCHP-TQFP-PT44_N (QFN, 44-Leads, Body 10x10mm, Pitch 0.8mm, IPC Medium Density)
footprint MCHP-TQFP-PT44_L (QFN, 44-Leads, Body 10x10mm, Pitch 0.8mm, IPC High Density)
footprint MCHP-TQFP-PT44_M (QFN, 44-Leads, Body 10x10mm, Pitch 0.8mm, IPC Low Density)
pins: 1 RC7/RX/DT (io), 2 RD4/PSP4/ECCP1/P1A (io), 3 RD5/PSP5/P1B (io), 4 RD6/PSP6/P1C (io), 5 RD7/PSP7/P1D (io), 6 VSS (power) "Ground reference for logic and I/O pins.", 7 VDD (power) "Positive supply for logic and I/O pins.", 8 RB0/INT0 (io), 9 RB1/INT1 (io), 10 RB2/CANTX/INT2 (io), 11 RB3/CANRX (io), 12 NC, 13 NC, 14 RB4 (io) "Digital I/O. Interrupt-on-change pin.", 15 RB5/PGM (io), 16 RB6/PGC (io), 17 RB7/PGD (io), 18 ~{MCLR}/VPP (in), 19 RA0/AN0/CVREF (io), 20 RA1/AN1 (io), 21 RA2/AN2/VREF- (io), 22 RA3/AN3/VREF+ (io), 23 RA4/T0CKI (io), 24 RA5/AN4/~{SS}/LVDIN (io), 25 RE0/AN5/~{RD} (io), 26 RE1/AN6/~{WR}/C1OUT (io), 27 RE2/AN7/~{CS}/C2OUT (io), 28 VDD (power) "Positive supply for logic and I/O pins.", 29 VSS (power) "Ground reference for logic and I/O pins.", 30 OSC1/CLKI (in), 31 RA6/OSC2/CLKO (io), 32 RC0/T1OSO/T1CKI (io), 33 NC, 34 NC, 35 RC1/T1OSI (io), 36 RC2/CCP1 (io), 37 RC3/SCK/SCL (io), 38 RD0/PSP0/C1IN+ (io), 39 RD1/PSP1/C1IN- (io), 40 RD2/PSP2/C2IN+ (io), 41 RD3/PSP3/C2IN- (io), 42 RC4/SDI/SDA (io), 43 RC5/SDO (io), 44 RC6/TX/CK (io)

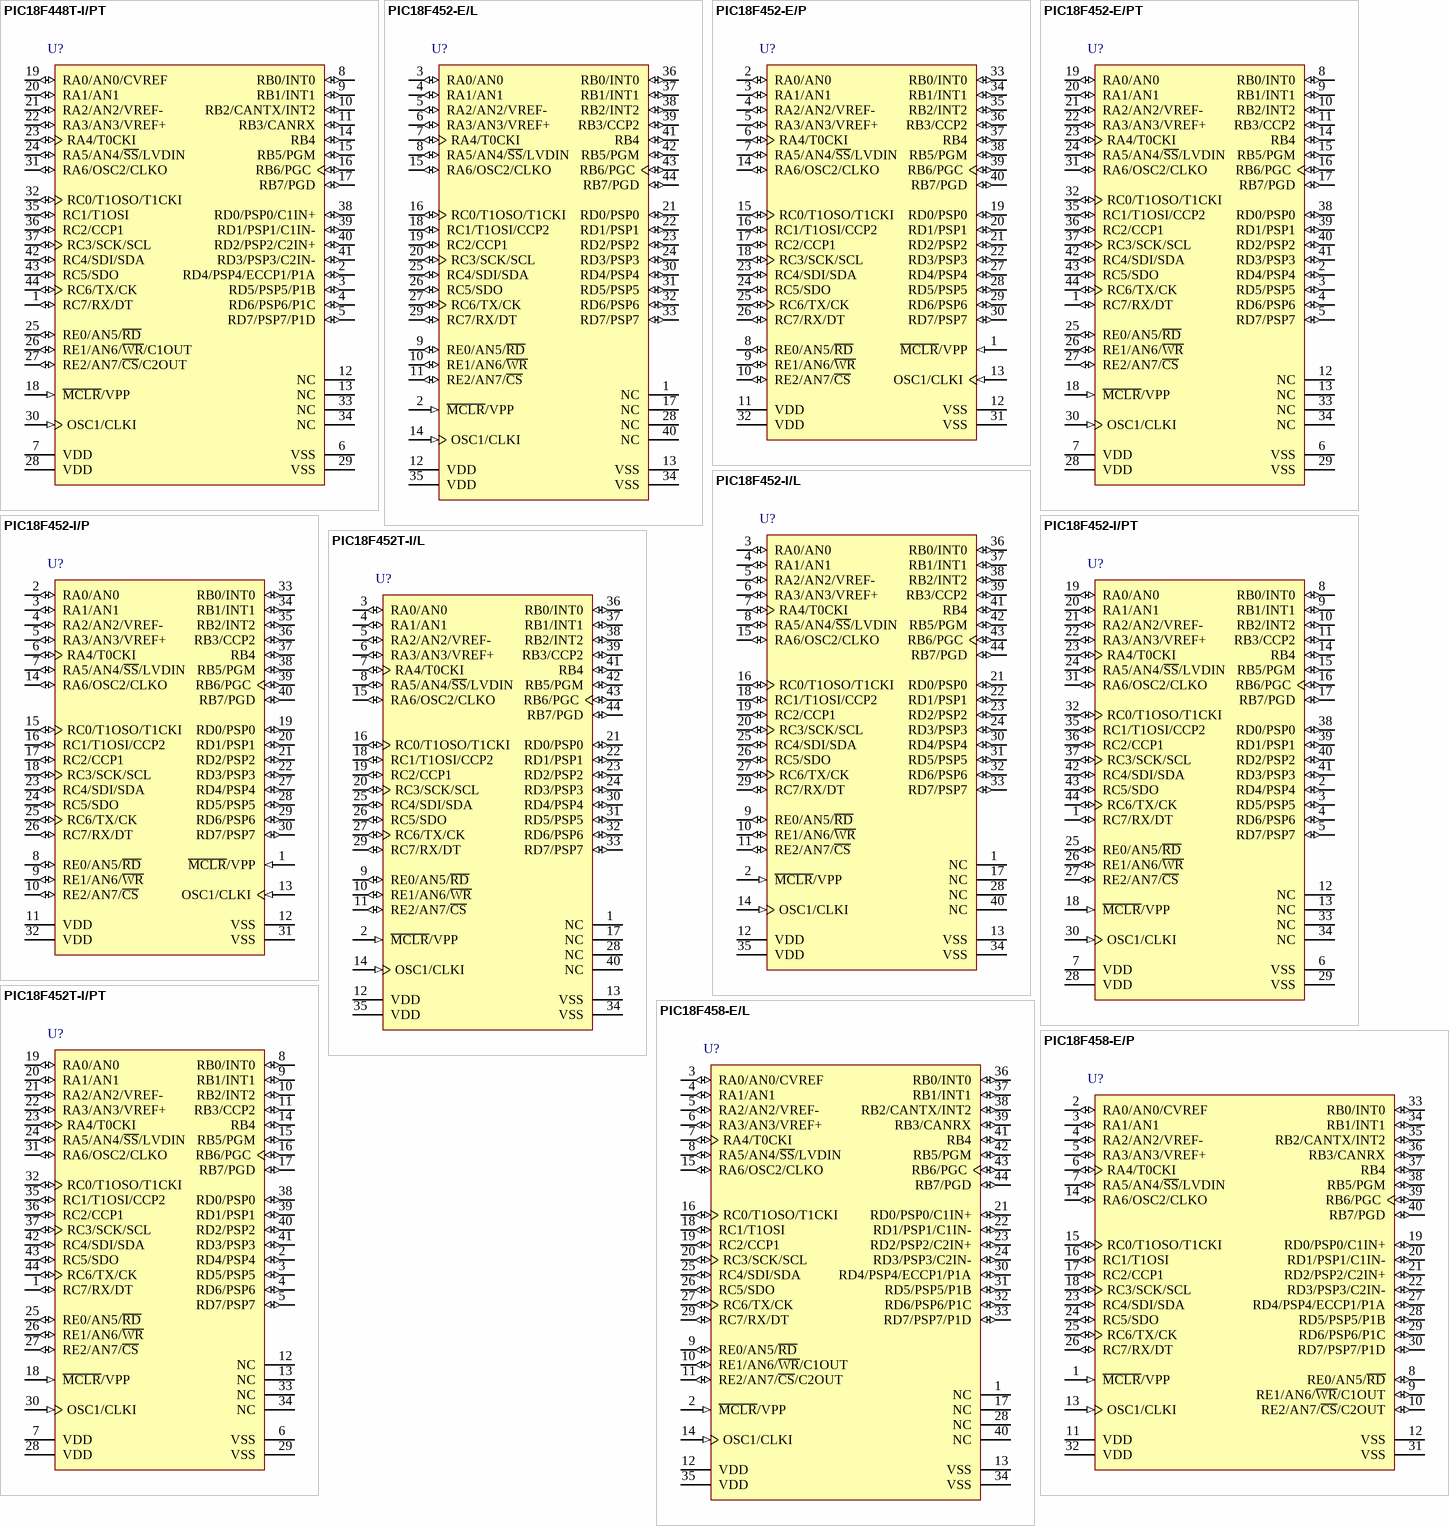
[diagram p90: symbols PIC18F448T-I/PT to PIC18F458-E/P]

## PIC18F448T-I/PT
designator U?
High-Performance, Enhanced Flash Microcontroller with CAN Module, 40 MHz, 33 I/O, -40 to 85 degC, 44-pin TQFP (PT44), Tape and Reel; Manufacturer: Microchip; PartNumber: PIC18F448T-I/PT; # of A/D Channels: 8; Digital Communication: 0 -UART, 1 -A/E/USART, 0 -SPI, 0 -I2C, 1 -MSSP(SPI/I2C); EEPROM Data Memory (bytes): 256; I/O Pins: 33; Max. CPU Speed MHz: 40; Operation Voltage Range: 4.2V - 5.5V; Packing: T/R; Program Memory KBytes: 16; RAM: 768; Timers: 1 - 8-bit, 3 - 16-bit, 0 - 32-bit; DatasheetVersion: Rev. E; PackageVersion: C04-076B, 12/2012; PackageReference: TQFP-PT44; PackageDescription: 44-Lead Plastic Thin Quad Flatpack, 10 x 10 mm Body, 0.8 mm Pitch; Supplier 1: Digi-Key; Supplier Part Number 1: PIC18F448T-I/PT-ND; Supplier 2: Mouser; Supplier Part Number 2: 579-PIC18F448T-I/PT; Memory Type: Flash; Program Memory KWords: 8; RoHS: TRUE; Mounting Technology: Surface Mount; ComponentLink1Description: Datasheet; ComponentLink1URL: http://ww1.microchip.com/downloads/en/DeviceDoc/41159e.pdf; ComponentLink2Description: Package Specification; ComponentLink2URL: http://www.microchip.com/stellent/groups/techpub_sg/documents/packagingspec/en012702.pdf; ComponentLink3Description: URL Link1; ComponentLink3URL: Product URL:http://www.microchip.com/datasheet/PIC18F448
footprint MCHP-TQFP-PT44_N (QFN, 44-Leads, Body 10x10mm, Pitch 0.8mm, IPC Medium Density)
footprint MCHP-TQFP-PT44_L (QFN, 44-Leads, Body 10x10mm, Pitch 0.8mm, IPC High Density)
footprint MCHP-TQFP-PT44_M (QFN, 44-Leads, Body 10x10mm, Pitch 0.8mm, IPC Low Density)
pins: 1 RC7/RX/DT (io), 2 RD4/PSP4/ECCP1/P1A (io), 3 RD5/PSP5/P1B (io), 4 RD6/PSP6/P1C (io), 5 RD7/PSP7/P1D (io), 6 VSS (power) "Ground reference for logic and I/O pins.", 7 VDD (power) "Positive supply for logic and I/O pins.", 8 RB0/INT0 (io), 9 RB1/INT1 (io), 10 RB2/CANTX/INT2 (io), 11 RB3/CANRX (io), 12 NC, 13 NC, 14 RB4 (io) "Digital I/O. Interrupt-on-change pin.", 15 RB5/PGM (io), 16 RB6/PGC (io), 17 RB7/PGD (io), 18 ~{MCLR}/VPP (in), 19 RA0/AN0/CVREF (io), 20 RA1/AN1 (io), 21 RA2/AN2/VREF- (io), 22 RA3/AN3/VREF+ (io), 23 RA4/T0CKI (io), 24 RA5/AN4/~{SS}/LVDIN (io), 25 RE0/AN5/~{RD} (io), 26 RE1/AN6/~{WR}/C1OUT (io), 27 RE2/AN7/~{CS}/C2OUT (io), 28 VDD (power) "Positive supply for logic and I/O pins.", 29 VSS (power) "Ground reference for logic and I/O pins.", 30 OSC1/CLKI (in), 31 RA6/OSC2/CLKO (io), 32 RC0/T1OSO/T1CKI (io), 33 NC, 34 NC, 35 RC1/T1OSI (io), 36 RC2/CCP1 (io), 37 RC3/SCK/SCL (io), 38 RD0/PSP0/C1IN+ (io), 39 RD1/PSP1/C1IN- (io), 40 RD2/PSP2/C2IN+ (io), 41 RD3/PSP3/C2IN- (io), 42 RC4/SDI/SDA (io), 43 RC5/SDO (io), 44 RC6/TX/CK (io)

## PIC18F452-E/L
designator U?
High Performance, Enhanced Flash Microcontroller with 10-Bit A/D, 40 MHz, 34 I/O, -40 to 125 degC, 44-pin PLCC (L44), Tube; Manufacturer: Microchip; PartNumber: PIC18F452-E/L; # of A/D Channels: 8; Digital Communication: 0 -UART, 1 -A/E/USART, 0 -SPI, 0 -I2C, 1 -MSSP(SPI/I2C); EEPROM Data Memory (bytes): 256; I/O Pins: 34; Max. CPU Speed MHz: 40; Operation Voltage Range: 2V - 5.5V; Program Memory KBytes: 32; Program Memory KWords: 16; RAM: 1536; Timers: 1 - 8-bit, 3 - 16-bit, 0 - 32-bit; DatasheetVersion: Rev. C; PackageVersion: C04-048B, 04/2013; PackageReference: PLCC-L44; PackageDescription: 44-Lead Plastic Leaded Chip Carrier, Body 16.5862 x 16.5862 mm, Pitch 1.27 mm; Supplier 1: Digi-Key; Supplier Part Number 1: PIC18F452-E/L-ND; Supplier 2: Newark; Supplier Part Number 2: 72C4327; Supplier 3: Mouser; Supplier Part Number 3: 579-PIC18F452-E/L; Memory Type: Flash; Packing: TUBE; RoHS: TRUE; Mounting Technology: Surface Mount; ComponentLink1Description: Datasheet; ComponentLink1URL: http://ww1.microchip.com/downloads/en/DeviceDoc/39564c.pdf; ComponentLink2Description: Package Specification; ComponentLink2URL: http://www.microchip.com/stellent/groups/techpub_sg/documents/packagingspec/en012702.pdf; ComponentLink3Description: URL Link1; ComponentLink3URL: Product URL:http://www.microchip.com/datasheet/PIC18F452
footprint MCHP-PLCC-L44_N (PLCC, 44-Leads, Body 16.586x16.586mm, Pitch 1.27mm, IPC Medium Density)
footprint MCHP-PLCC-L44_L (PLCC, 44-Leads, Body 16.586x16.586mm, Pitch 1.27mm, IPC High Density)
footprint MCHP-PLCC-L44_M (PLCC, 44-Leads, Body 16.586x16.586mm, Pitch 1.27mm, IPC Low Density)
pins: 1 NC "These pins should be left unconnected.", 2 ~{MCLR}/VPP (in), 3 RA0/AN0 (io), 4 RA1/AN1 (io), 5 RA2/AN2/VREF- (io), 6 RA3/AN3/VREF+ (io), 7 RA4/T0CKI (io), 8 RA5/AN4/~{SS}/LVDIN (io), 9 RE0/AN5/~{RD} (io), 10 RE1/AN6/~{WR} (io), 11 RE2/AN7/~{CS} (io), 12 VDD (power) "Positive supply for logic and I/O pins.", 13 VSS (power) "Ground reference for logic and I/O pins.", 14 OSC1/CLKI (in), 15 RA6/OSC2/CLKO (io), 16 RC0/T1OSO/T1CKI (io), 17 NC "These pins should be left unconnected.", 18 RC1/T1OSI/CCP2 (io), 19 RC2/CCP1 (io), 20 RC3/SCK/SCL (io), 21 RD0/PSP0 (io), 22 RD1/PSP1 (io), 23 RD2/PSP2 (io), 24 RD3/PSP3 (io), 25 RC4/SDI/SDA (io), 26 RC5/SDO (io), 27 RC6/TX/CK (io), 28 NC "These pins should be left unconnected.", 29 RC7/RX/DT (io), 30 RD4/PSP4 (io), 31 RD5/PSP5 (io), 32 RD6/PSP6 (io), 33 RD7/PSP7 (io), 34 VSS (power) "Ground reference for logic and I/O pins.", 35 VDD (power) "Positive supply for logic and I/O pins.", 36 RB0/INT0 (io), 37 RB1/INT1 (io), 38 RB2/INT2 (io), 39 RB3/CCP2 (io), 40 NC "These pins should be left unconnected.", 41 RB4 (io) "PORTB is a bi-directional I/O port. PORTB can be software programmed for internal weak pull-ups on all inputs. Digital I/O. Interrupt-on-change pin.", 42 RB5/PGM (io), 43 RB6/PGC (io), 44 RB7/PGD (io)

## PIC18F452-E/P
designator U?
High Performance, Enhanced Flash Microcontroller with 10-Bit A/D, 40 MHz, 34 I/O, -40 to 125 degC, 40-pin PDIP (P40), Tube; Manufacturer: Microchip; PartNumber: PIC18F452-E/P; # of A/D Channels: 8; Digital Communication: 0 -UART, 1 -A/E/USART, 0 -SPI, 0 -I2C, 1 -MSSP(SPI/I2C); EEPROM Data Memory (bytes): 256; I/O Pins: 34; Max. CPU Speed MHz: 40; Operation Voltage Range: 2V - 5.5V; Program Memory KBytes: 32; Program Memory KWords: 16; RAM: 1536; Timers: 1 - 8-bit, 3 - 16-bit, 0 - 32-bit; DatasheetVersion: Rev. C; PackageVersion: C04-016B, 04/2013; PackageReference: PDIP-P40; PackageDescription: 40-Lead Plastic Dual In-Line Package, Body 51.75 x 13.53 mm, Pitch 2.54 mm; Supplier 1: Digi-Key; Supplier Part Number 1: PIC18F452-E/P-ND; Supplier 2: Newark; Supplier Part Number 2: 72C4328; Supplier 3: Mouser; Supplier Part Number 3: 579-PIC18F452-E/P; Memory Type: Flash; Packing: TUBE; RoHS: TRUE; Mounting Technology: Through Hole; ComponentLink1Description: Datasheet; ComponentLink1URL: http://ww1.microchip.com/downloads/en/DeviceDoc/39564c.pdf; ComponentLink2Description: Package Specification; ComponentLink2URL: http://www.microchip.com/stellent/groups/techpub_sg/documents/packagingspec/en012702.pdf; ComponentLink3Description: URL Link1; ComponentLink3URL: Product URL:http://www.microchip.com/datasheet/PIC18F452
footprint MCHP-PDIP-P40 (PDIP, 40-Leads, Body 51.75x13.53mm, Pitch 2.54mm)
pins: 1 ~{MCLR}/VPP (in), 2 RA0/AN0 (io), 3 RA1/AN1 (io), 4 RA2/AN2/VREF- (io), 5 RA3/AN3/VREF+ (io), 6 RA4/T0CKI (io), 7 RA5/AN4/~{SS}/LVDIN (io), 8 RE0/AN5/~{RD} (io), 9 RE1/AN6/~{WR} (io), 10 RE2/AN7/~{CS} (io), 11 VDD (power) "Positive supply for logic and I/O pins.", 12 VSS (power) "Ground reference for logic and I/O pins.", 13 OSC1/CLKI (in), 14 RA6/OSC2/CLKO (io), 15 RC0/T1OSO/T1CKI (io), 16 RC1/T1OSI/CCP2 (io), 17 RC2/CCP1 (io), 18 RC3/SCK/SCL (io), 19 RD0/PSP0 (io), 20 RD1/PSP1 (io), 21 RD2/PSP2 (io), 22 RD3/PSP3 (io), 23 RC4/SDI/SDA (io), 24 RC5/SDO (io), 25 RC6/TX/CK (io), 26 RC7/RX/DT (io), 27 RD4/PSP4 (io), 28 RD5/PSP5 (io), 29 RD6/PSP6 (io), 30 RD7/PSP7 (io), 31 VSS (power) "Ground reference for logic and I/O pins.", 32 VDD (power) "Positive supply for logic and I/O pins.", 33 RB0/INT0 (io), 34 RB1/INT1 (io), 35 RB2/INT2 (io), 36 RB3/CCP2 (io), 37 RB4 (io) "PORTB is a bi-directional I/O port. PORTB can be software programmed for internal weak pull-ups on all inputs. Digital I/O. Interrupt-on-change pin.", 38 RB5/PGM (io), 39 RB6/PGC (io), 40 RB7/PGD (io)

## PIC18F452-E/PT
designator U?
High Performance, Enhanced Flash Microcontroller with 10-Bit A/D, 40 MHz, 34 I/O, -40 to 125 degC, 44-pin TQFP (PT44), Tray; Manufacturer: Microchip; PartNumber: PIC18F452-E/PT; # of A/D Channels: 8; Digital Communication: 0 -UART, 1 -A/E/USART, 0 -SPI, 0 -I2C, 1 -MSSP(SPI/I2C); EEPROM Data Memory (bytes): 256; I/O Pins: 34; Max. CPU Speed MHz: 40; Operation Voltage Range: 2V - 5.5V; Program Memory KBytes: 32; Program Memory KWords: 16; RAM: 1536; Timers: 1 - 8-bit, 3 - 16-bit, 0 - 32-bit; DatasheetVersion: Rev. C; PackageVersion: C04-076B, 12/2012; PackageReference: TQFP-PT44; PackageDescription: 44-Lead Plastic Thin Quad Flatpack, 10 x 10 mm Body, 0.8 mm Pitch; Supplier 1: Digi-Key; Supplier Part Number 1: PIC18F452-E/PT-ND; Supplier 2: Newark; Supplier Part Number 2: 72C4329; Supplier 3: Mouser; Supplier Part Number 3: 579-PIC18F452-E/PT; Memory Type: Flash; Packing: TRAY; RoHS: TRUE; Mounting Technology: Surface Mount; ComponentLink1Description: Datasheet; ComponentLink1URL: http://ww1.microchip.com/downloads/en/DeviceDoc/39564c.pdf; ComponentLink2Description: Package Specification; ComponentLink2URL: http://www.microchip.com/stellent/groups/techpub_sg/documents/packagingspec/en012702.pdf; ComponentLink3Description: URL Link1; ComponentLink3URL: Product URL:http://www.microchip.com/datasheet/PIC18F452
footprint MCHP-TQFP-PT44_N (QFN, 44-Leads, Body 10x10mm, Pitch 0.8mm, IPC Medium Density)
footprint MCHP-TQFP-PT44_L (QFN, 44-Leads, Body 10x10mm, Pitch 0.8mm, IPC High Density)
footprint MCHP-TQFP-PT44_M (QFN, 44-Leads, Body 10x10mm, Pitch 0.8mm, IPC Low Density)
pins: 1 RC7/RX/DT (io), 2 RD4/PSP4 (io), 3 RD5/PSP5 (io), 4 RD6/PSP6 (io), 5 RD7/PSP7 (io), 6 VSS (power) "Ground reference for logic and I/O pins.", 7 VDD (power) "Positive supply for logic and I/O pins.", 8 RB0/INT0 (io), 9 RB1/INT1 (io), 10 RB2/INT2 (io), 11 RB3/CCP2 (io), 12 NC "These pins should be left unconnected.", 13 NC "These pins should be left unconnected.", 14 RB4 (io) "PORTB is a bi-directional I/O port. PORTB can be software programmed for internal weak pull-ups on all inputs. Digital I/O. Interrupt-on-change pin.", 15 RB5/PGM (io), 16 RB6/PGC (io), 17 RB7/PGD (io), 18 ~{MCLR}/VPP (in), 19 RA0/AN0 (io), 20 RA1/AN1 (io), 21 RA2/AN2/VREF- (io), 22 RA3/AN3/VREF+ (io), 23 RA4/T0CKI (io), 24 RA5/AN4/~{SS}/LVDIN (io), 25 RE0/AN5/~{RD} (io), 26 RE1/AN6/~{WR} (io), 27 RE2/AN7/~{CS} (io), 28 VDD (power) "Positive supply for logic and I/O pins.", 29 VSS (power) "Ground reference for logic and I/O pins.", 30 OSC1/CLKI (in), 31 RA6/OSC2/CLKO (io), 32 RC0/T1OSO/T1CKI (io), 33 NC "These pins should be left unconnected.", 34 NC "These pins should be left unconnected.", 35 RC1/T1OSI/CCP2 (io), 36 RC2/CCP1 (io), 37 RC3/SCK/SCL (io), 38 RD0/PSP0 (io), 39 RD1/PSP1 (io), 40 RD2/PSP2 (io), 41 RD3/PSP3 (io), 42 RC4/SDI/SDA (io), 43 RC5/SDO (io), 44 RC6/TX/CK (io)

## PIC18F452-I/L
designator U?
High Performance, Enhanced Flash Microcontroller with 10-Bit A/D, 40 MHz, 34 I/O, -40 to 85 degC, 44-pin PLCC (L44), Tube; Manufacturer: Microchip; PartNumber: PIC18F452-I/L; # of A/D Channels: 8; Digital Communication: 0 -UART, 1 -A/E/USART, 0 -SPI, 0 -I2C, 1 -MSSP(SPI/I2C); EEPROM Data Memory (bytes): 256; I/O Pins: 34; Max. CPU Speed MHz: 40; Operation Voltage Range: 2V - 5.5V; Program Memory KBytes: 32; Program Memory KWords: 16; RAM: 1536; Timers: 1 - 8-bit, 3 - 16-bit, 0 - 32-bit; DatasheetVersion: Rev. C; PackageVersion: C04-048B, 04/2013; PackageReference: PLCC-L44; PackageDescription: 44-Lead Plastic Leaded Chip Carrier, Body 16.5862 x 16.5862 mm, Pitch 1.27 mm; Supplier 1: Digi-Key; Supplier Part Number 1: PIC18F452-I/L-ND; Supplier 2: Farnell; Supplier Part Number 2: 9762221MPKG; Supplier 3: Farnell; Supplier Part Number 3: 9762221; Supplier 4: Farnell; Supplier Part Number 4: 1660061; Supplier 5: Mouser; Supplier Part Number 5: 579-PIC18F452-I/L; Memory Type: Flash; Packing: TUBE; RoHS: TRUE; Mounting Technology: Surface Mount; ComponentLink1Description: Datasheet; ComponentLink1URL: http://ww1.microchip.com/downloads/en/DeviceDoc/39564c.pdf; ComponentLink2Description: Package Specification; ComponentLink2URL: http://www.microchip.com/stellent/groups/techpub_sg/documents/packagingspec/en012702.pdf; ComponentLink3Description: URL Link1; ComponentLink3URL: Product URL:http://www.microchip.com/datasheet/PIC18F452
footprint MCHP-PLCC-L44_N (PLCC, 44-Leads, Body 16.586x16.586mm, Pitch 1.27mm, IPC Medium Density)
footprint MCHP-PLCC-L44_L (PLCC, 44-Leads, Body 16.586x16.586mm, Pitch 1.27mm, IPC High Density)
footprint MCHP-PLCC-L44_M (PLCC, 44-Leads, Body 16.586x16.586mm, Pitch 1.27mm, IPC Low Density)
pins: 1 NC "These pins should be left unconnected.", 2 ~{MCLR}/VPP (in), 3 RA0/AN0 (io), 4 RA1/AN1 (io), 5 RA2/AN2/VREF- (io), 6 RA3/AN3/VREF+ (io), 7 RA4/T0CKI (io), 8 RA5/AN4/~{SS}/LVDIN (io), 9 RE0/AN5/~{RD} (io), 10 RE1/AN6/~{WR} (io), 11 RE2/AN7/~{CS} (io), 12 VDD (power) "Positive supply for logic and I/O pins.", 13 VSS (power) "Ground reference for logic and I/O pins.", 14 OSC1/CLKI (in), 15 RA6/OSC2/CLKO (io), 16 RC0/T1OSO/T1CKI (io), 17 NC "These pins should be left unconnected.", 18 RC1/T1OSI/CCP2 (io), 19 RC2/CCP1 (io), 20 RC3/SCK/SCL (io), 21 RD0/PSP0 (io), 22 RD1/PSP1 (io), 23 RD2/PSP2 (io), 24 RD3/PSP3 (io), 25 RC4/SDI/SDA (io), 26 RC5/SDO (io), 27 RC6/TX/CK (io), 28 NC "These pins should be left unconnected.", 29 RC7/RX/DT (io), 30 RD4/PSP4 (io), 31 RD5/PSP5 (io), 32 RD6/PSP6 (io), 33 RD7/PSP7 (io), 34 VSS (power) "Ground reference for logic and I/O pins.", 35 VDD (power) "Positive supply for logic and I/O pins.", 36 RB0/INT0 (io), 37 RB1/INT1 (io), 38 RB2/INT2 (io), 39 RB3/CCP2 (io), 40 NC "These pins should be left unconnected.", 41 RB4 (io) "PORTB is a bi-directional I/O port. PORTB can be software programmed for internal weak pull-ups on all inputs. Digital I/O. Interrupt-on-change pin.", 42 RB5/PGM (io), 43 RB6/PGC (io), 44 RB7/PGD (io)

## PIC18F452-I/P
designator U?
High Performance, Enhanced Flash Microcontroller with 10-Bit A/D, 40 MHz, 34 I/O, -40 to 85 degC, 40-pin PDIP (P40), Tube; Manufacturer: Microchip; PartNumber: PIC18F452-I/P; # of A/D Channels: 8; Digital Communication: 0 -UART, 1 -A/E/USART, 0 -SPI, 0 -I2C, 1 -MSSP(SPI/I2C); EEPROM Data Memory (bytes): 256; I/O Pins: 34; Max. CPU Speed MHz: 40; Operation Voltage Range: 2V - 5.5V; Program Memory KBytes: 32; Program Memory KWords: 16; RAM: 1536; Timers: 1 - 8-bit, 3 - 16-bit, 0 - 32-bit; DatasheetVersion: Rev. C; PackageVersion: C04-016B, 04/2013; PackageReference: PDIP-P40; PackageDescription: 40-Lead Plastic Dual In-Line Package, Body 51.75 x 13.53 mm, Pitch 2.54 mm; Supplier 1: Digi-Key; Supplier Part Number 1: PIC18F452-I/P-ND; Supplier 2: Farnell; Supplier Part Number 2: 9762230; Supplier 3: Farnell; Supplier Part Number 3: 1523973; Supplier 4: Newark; Supplier Part Number 4: 77C5219; Supplier 5: Mouser; Supplier Part Number 5: 579-PIC18F452-I/P; Memory Type: Flash; Packing: TUBE; RoHS: TRUE; Mounting Technology: Through Hole; ComponentLink1Description: Datasheet; ComponentLink1URL: http://ww1.microchip.com/downloads/en/DeviceDoc/39564c.pdf; ComponentLink2Description: Package Specification; ComponentLink2URL: http://www.microchip.com/stellent/groups/techpub_sg/documents/packagingspec/en012702.pdf; ComponentLink3Description: URL Link1; ComponentLink3URL: Product URL:http://www.microchip.com/datasheet/PIC18F452
footprint MCHP-PDIP-P40 (PDIP, 40-Leads, Body 51.75x13.53mm, Pitch 2.54mm)
pins: 1 ~{MCLR}/VPP (in), 2 RA0/AN0 (io), 3 RA1/AN1 (io), 4 RA2/AN2/VREF- (io), 5 RA3/AN3/VREF+ (io), 6 RA4/T0CKI (io), 7 RA5/AN4/~{SS}/LVDIN (io), 8 RE0/AN5/~{RD} (io), 9 RE1/AN6/~{WR} (io), 10 RE2/AN7/~{CS} (io), 11 VDD (power) "Positive supply for logic and I/O pins.", 12 VSS (power) "Ground reference for logic and I/O pins.", 13 OSC1/CLKI (in), 14 RA6/OSC2/CLKO (io), 15 RC0/T1OSO/T1CKI (io), 16 RC1/T1OSI/CCP2 (io), 17 RC2/CCP1 (io), 18 RC3/SCK/SCL (io), 19 RD0/PSP0 (io), 20 RD1/PSP1 (io), 21 RD2/PSP2 (io), 22 RD3/PSP3 (io), 23 RC4/SDI/SDA (io), 24 RC5/SDO (io), 25 RC6/TX/CK (io), 26 RC7/RX/DT (io), 27 RD4/PSP4 (io), 28 RD5/PSP5 (io), 29 RD6/PSP6 (io), 30 RD7/PSP7 (io), 31 VSS (power) "Ground reference for logic and I/O pins.", 32 VDD (power) "Positive supply for logic and I/O pins.", 33 RB0/INT0 (io), 34 RB1/INT1 (io), 35 RB2/INT2 (io), 36 RB3/CCP2 (io), 37 RB4 (io) "PORTB is a bi-directional I/O port. PORTB can be software programmed for internal weak pull-ups on all inputs. Digital I/O. Interrupt-on-change pin.", 38 RB5/PGM (io), 39 RB6/PGC (io), 40 RB7/PGD (io)